# Altium footprint library FE Diodes.PcbLib: 8 footprints
Each footprint in its own frame and in the unit in brackets; x right, y up, seen from the top. Pads: shape width x height; smd on the part's side, far side on the other; paste and mask are expansions set on the pad; w line width, h text height; cw(c..) or ccw(c..) is an arc to the next point about the centre after c.
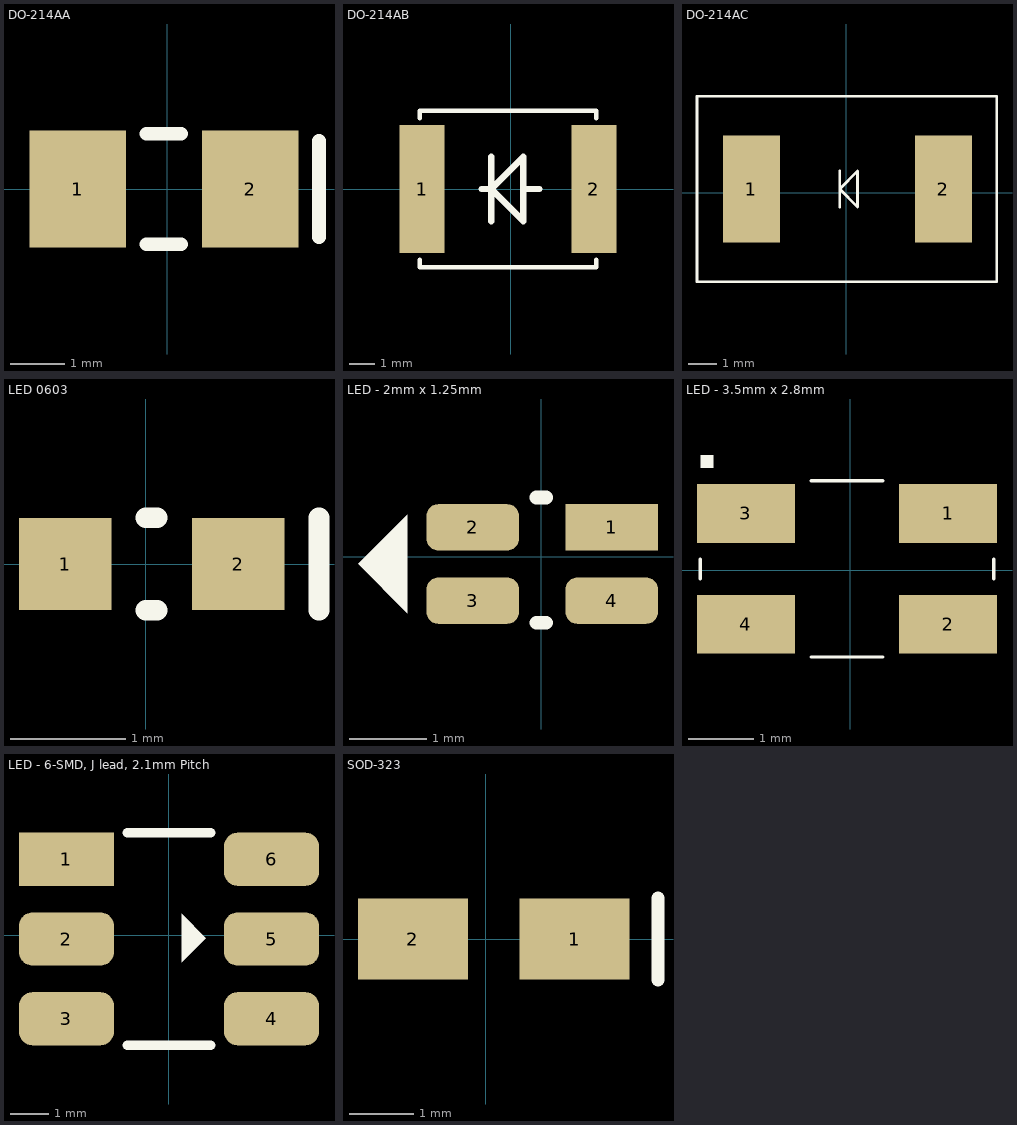
[diagram p0: the footprints below, top view; thin cyan lines are the x and y axes]

## DO-214AA [mil]
pads (2):
  rect 70x85 smd: 1(-65,0) 2(60,0)
Top Overlay:
  lines w10: -15,-40 10,-40 ; -15,40 10,40 ; 110,-35 110,35

## DO-214AB [mm]
pads (2):
  rect 1.778x5.08 smd: 1(-3.5,0) 2(3.3,0)
Top Overlay:
  lines w0.178: -3.6,-2.8 -3.6,-3.1 3.4,-3.1 3.4,-2.8 ; -3.6,2.8 -3.6,3.1 3.4,3.1 3.4,2.8
  lines w0.254: -1.143,0 -0.762,0 ; -0.762,-1.27 -0.762,1.27 ; 0.508,0 1.143,0 ; -0.762,0 0.508,-1.27 0.508,1.27 -0.762,0

## DO-214AC [mil] "SMA"
pads (2):
  rect 80x150 smd: 1(-133.2,4.94) 2(135.86,4.94)
Top Overlay:
  lines w4: -198.79,134.86 210.54,134.86 210.54,-124.98 165.54,-124.98 ; -164.46,134.86 -209.46,134.86 -209.46,-124.98 203.77,-124.98 ; -9.46,-20.06 -9.46,4.94 ; -9.46,29.94 -9.46,4.94 ; -9.46,4.94 15.54,29.94 15.54,4.94 15.54,-20.06 -9.46,4.94
3D body "User Library-Diode Molded 5025Body.step": height 83.95, standoff -1.08, extent -153.5,-113.17 157.52,123.05

## LED 0603 [mm] "Surface Mount LED"
height 0.787
pads (2):
  rect 0.8x0.8 smd: 1(-0.7,0) 2(0.8,0)
Top Overlay:
  lines w0.178: 0,-0.4 0.1,-0.4 ; 0,0.4 0.1,0.4 ; 1.5,-0.4 1.5,0.4
3D body: height 0.79, standoff 0.06, extent -0.8,-0.4 0.9,0.4

## LED - 2mm x 1.25mm [mm] "XZMDKVG54W-4"
height 0.45
pads (4):
  rect 1.2x0.6 smd: 1(0.911,0.381)
  rrect50% 1.2x0.6 smd: 2(-0.889,0.381) 3(-0.889,-0.569) 4(0.911,-0.569)
Top Overlay:
  region: -2.377,-0.094 -1.742,-0.729 -1.742,0.541
  lines w0.18: -0.065,-0.856 0.062,-0.856 ; -0.065,0.77 0.062,0.77

## LED - 3.5mm x 2.8mm [mm] "150141M173100"
height 2.1
pads (4):
  rect 1.5x0.9 smd: 1(1.5,0.873) 2(1.5,-0.827) 3(-1.6,0.873) 4(-1.6,-0.827)
Top Overlay:
  rectangle: -2.3,1.573 -2.1,1.773
  lines w0.05: -2.3,-0.127 -2.3,0.173 ; -0.6,-1.327 0.5,-1.327 ; -0.6,1.373 0.5,1.373 ; 2.2,-0.127 2.2,0.173
3D body: height 1, standoff 0, extent -2.032,-1.143 2.032,1.143

## LED - 6-SMD, J lead, 2.1mm Pitch [mm]
height 2.5
pads (6):
  rect 2.5x1.4 smd: 1(-2.7,2)
  rrect50% 2.5x1.4 smd: 2(-2.7,-0.1) 3(-2.7,-2.2) 4(2.7,-2.2) 5(2.7,-0.1) 6(2.7,2)
Top Overlay:
  region: 0.965,-0.076 0.33,0.559 0.33,-0.711
  lines w0.25: -1.1,-2.9 1.1,-2.9 ; -1.1,2.7 1.1,2.7
3D body "LED - RGB.step": height 2.5, standoff -0.1, extent -2.75,-2.808 2.75,2.692

## SOD-323 [mm]
pads (2):
  rect 1.7x1.25 smd: 1(1.377,0) 2(-1.123,0)
Top Overlay:
  lines w0.2: 2.667,-0.635 2.667,0.635